# EAGLE library part ATTINY20-SSU (library PP_DigitalIC)
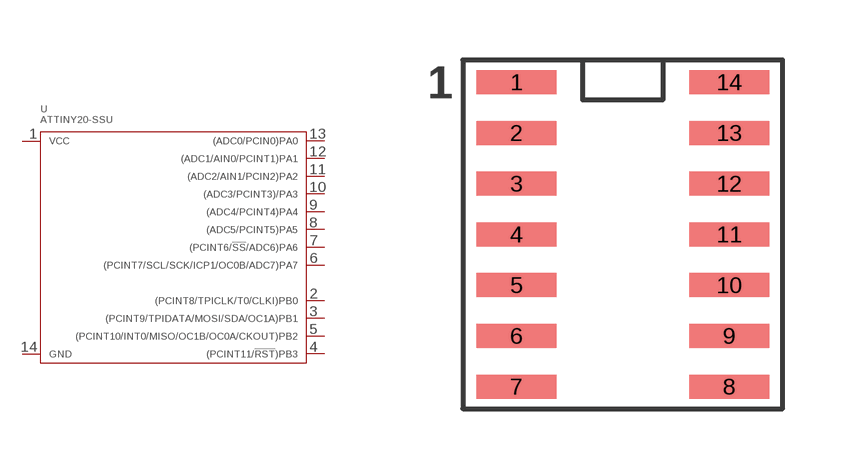
[diagram p39: symbol with the pads of ATTINY20-SSU_SOIC-14; footprint ATTINY20-SSU_SOIC-14]

Designator prefix U

## ATTINY20-SSU (MPN: ATTINY20-SSU; POPULATE: 1)  [ATTINY20-SSU_SOIC-14]
1  VCC
2  (PCINT8/TPICLK/T0/CLKI)PB0
3  (PCINT9/TPIDATA/MOSI/SDA/OC1A)PB1
4  (PCINT11/!RST!)PB3
5  (PCINT10/INT0/MISO/OC1B/OC0A/CKOUT)PB2
6  (PCINT7/SCL/SCK/ICP1/OC0B/ADC7)PA7
7  (PCINT6/!SS!/ADC6)PA6
8  (ADC5/PCINT5)PA5
9  (ADC4/PCINT4)PA4
10  (ADC3/PCINT3)/PA3
11  (ADC2/AIN1/PCIN2)PA2
12  (ADC1/AIN0/PCINT1)PA1
13  (ADC0/PCIN0)PA0
14  GND

## Footprint ATTINY20-SSU_SOIC-14 (pad centres in mm)
smd 2 x 0.6: 1 -2.66,3.81; 2 -2.66,2.54; 3 -2.66,1.27; 4 -2.66,0; 5 -2.66,-1.27; 6 -2.66,-2.54; 7 -2.66,-3.81; 8 2.66,-3.81; 9 2.66,-2.54; 10 2.66,-1.27; 11 2.66,0; 12 2.66,1.27; 13 2.66,2.54; 14 2.66,3.81